# Altium schematic symbol library LCD.SchLib: 1 symbol
Pins are listed as number, name and electrical type; pins without a type are passive.

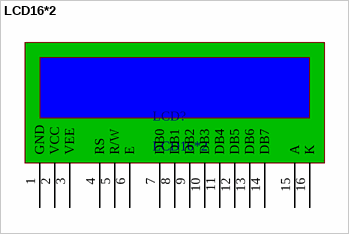
[diagram p0: symbol LCD16*2]

## LCD16*2
designator LCD?
footprint lcd
footprint LCD
pins: 1 GND, 2 VCC, 3 VEE, 4 RS, 5 R/W, 6 E, 7 DB0, 8 DB1, 9 DB2, 10 DB3, 11 DB4, 12 DB5, 13 DB6, 14 DB7, 15 A, 16 K